# Altium footprint library VREG_L78L05ABUTR.PcbLib: 1 footprints
Each footprint in its own frame and in the unit in brackets; x right, y up, seen from the top. Pads: shape width x height; smd on the part's side, far side on the other; paste and mask are expansions set on the pad; w line width, h text height; cw(c..) or ccw(c..) is an arc to the next point about the centre after c.
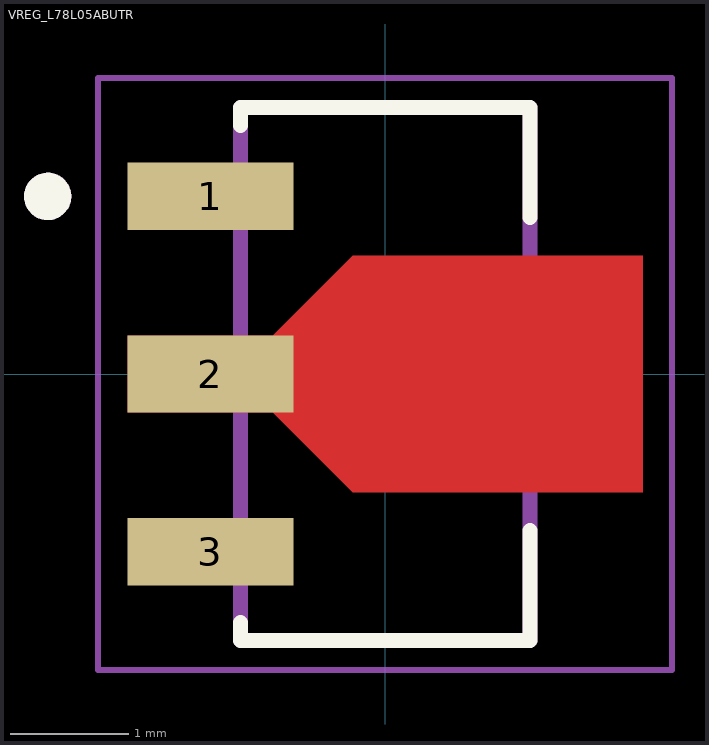
[diagram p0: the footprint, top view; thin cyan lines are the x and y axes]

## VREG_L78L05ABUTR [mm]
height 1.6
pads (3):
  rect 1.4x0.57 smd: 1(-1.475,1.5) 3(-1.475,-1.5)
  rect 1.4x0.65 smd paste-2 mask+0: 2(-1.475,0)
Top Layer:
  region: 2.175,-1 -0.275,-1 -0.95,-0.325 -2.175,-0.325 -2.175,0.325 -0.95,0.325 -0.275,1 2.175,1
Top Overlay:
  circle w0.2: c-2.85,1.5 r0.1
  lines w0.127: -1.222,-2.1 -1.222,-2.25 1.222,-2.25 1.222,-1.32 ; -1.222,2.1 -1.222,2.25 1.222,2.25 1.222,1.32
Top Paste:
  region: 1.725,-0.633 0.175,-0.633 0.175,0.633 1.725,0.633
  region: -0.95,-0.325 -2.175,-0.325 -2.175,0.325 -0.95,0.325
Top Solder:
  region: 2.275,-1.1 -0.375,-1.1 -1.05,-0.425 -2.275,-0.425 -2.275,0.425 -1.05,0.425 -0.375,1.1 2.275,1.1
Mechanical 13:
  circle w0.2: c-2.85,1.5 r0.1
  lines w0.127: -1.222,-2.25 -1.222,2.25 1.222,2.25 1.222,-2.25 -1.222,-2.25
Mechanical 15:
  lines w0.05: -2.425,-2.5 -2.425,2.5 2.425,2.5 2.425,-2.5 -2.425,-2.5
3D body "step_temp.STEP": height 1.6, standoff 0, extent -2.048,-2.159 2.047,2.341